# Altium schematic symbol library ZLG_CandleLight_F072.SchLib: 3 symbols
Pins are listed as number, name and electrical type; pins without a type are passive.

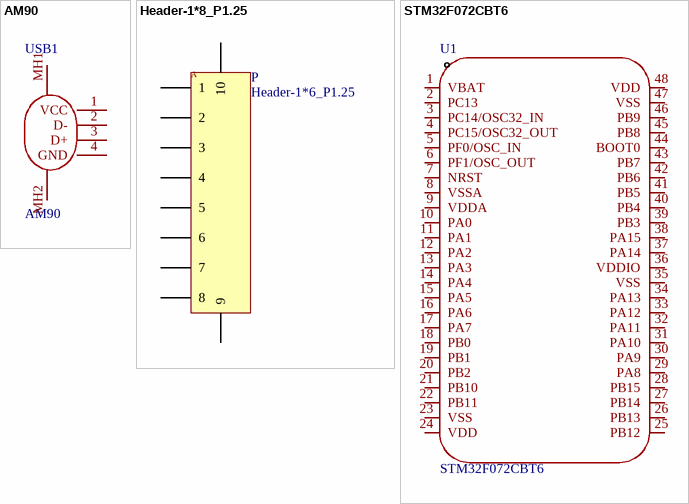
[diagram p0: symbols AM90 to STM32F072CBT6]

## AM90
designator USB1
Manufacturer: SHOU HAN(首韩); Add into BOM: yes; Connector Type: Type-A; Gender: 公; Number of Contacts: 4P; Number of Ports: 1; Current Rating - Power (Max): 1.5A; Rated Voltage (Max): 30V; Connect-Disconnect Life: 5千次; Core Colour: 白色; Symbol: AM90; Device: AM90; LCSC Part Name: Type-A 公 弯插; Supplier Part: C404965; Manufacturer Part: AM90; Supplier Footprint: 插件; JLCPCB Part Class: 扩展库; Datasheet: https://atta.szlcsc.com/upload/public/pdf/source/20190722/C404965_9CC10BE28E3F9E5134758D030387C529.pdf; Supplier: LCSC; Convert to PCB: yes; Standard: USB 2.0; Mounting Style: 弯插; Supplementary Features: -; Center Height: -; Length: 18.8mm; Operating Temperature Range: -25℃~+85℃
footprint USB-AM-TH_AM90
3D model USB-AM-TH_AM90
pins: 1 VCC, 2 D-, 3 D+, 4 GND, MH1, MH2

## Header-1*8_P1.25
designator P, comment Header-1*6_P1.25
Header, 8Pin, P1.25; MPN: A12514WR-S-08PNLNT1T00R; Manufacture: HR(灿达); Material Name: 接插件; Supplier: *; ComponentLink1Description: Datasheet; Design Item ID: Header-1*8_P1.25
footprint CON-1*8-P1.25
pins: 1, 2, 3, 4, 5, 6, 7, 8, 9, 10
text: A

## STM32F072CBT6
designator U1
Manufacturer: ST(意法半导体); Add into BOM: yes; CPU Core: ARM-M0; CPU Maximum Speed: 48MHz; Program Storage Size: 128KB; Program Memory Type: FLASH; Number of I/O: 37; ADC (Bit): 12bit; Voltage - Supply: 1.65V~3.6V; Symbol: STM32F072CBT6; Device: STM32F072CBT6; LCSC Part Name: 主流ARM Cortex-M0 USB系列MCU，具有128 KB Flash、48 MHz CPU、USB、CAN和CEC功能; Supplier Part: C81720; Manufacturer Part: STM32F072CBT6; Supplier Footprint: LQFP-48(7x7); JLCPCB Part Class: 扩展库; Datasheet: https://atta.szlcsc.com/upload/public/pdf/source/20171102/C125825_15096092762561078351.pdf; Supplier: LCSC; Convert to PCB: yes; DAC (Bit): 12bit; Applications: -
footprint LQFP-48_L7.0-W7.0-P0.50-LS9.0-BL
3D model LQFP-48_L7.0-W7.0-H1.4-LS9.0-P0.50
pins: 1 VBAT, 2 PC13, 3 PC14/OSC32_IN, 4 PC15/OSC32_OUT, 5 PF0/OSC_IN, 6 PF1/OSC_OUT, 7 NRST, 8 VSSA, 9 VDDA, 10 PA0, 11 PA1, 12 PA2, 13 PA3, 14 PA4, 15 PA5, 16 PA6, 17 PA7, 18 PB0, 19 PB1, 20 PB2, 21 PB10, 22 PB11, 23 VSS, 24 VDD, 25 PB12, 26 PB13, 27 PB14, 28 PB15, 29 PA8, 30 PA9, 31 PA10, 32 PA11, 33 PA12, 34 PA13, 35 VSS, 36 VDDIO, 37 PA14, 38 PA15, 39 PB3, 40 PB4, 41 PB5, 42 PB6, 43 PB7, 44 BOOT0, 45 PB8, 46 PB9, 47 VSS, 48 VDD